# EAGLE library part -EEPROM (library tango)
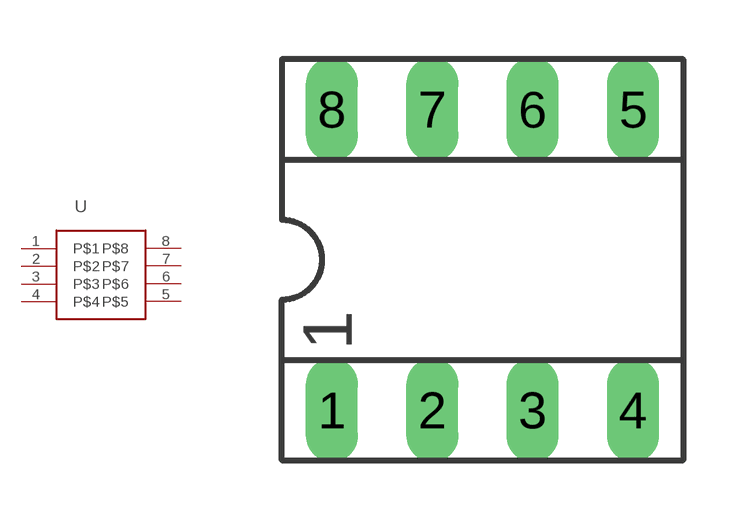
[diagram p12: symbol with the pads of SOCKED-08; footprint SOCKED-08]

Designator prefix -

## -EEPROM  [SOCKED-08]
1  P$1
2  P$2
3  P$3
4  P$4
5  P$5
6  P$6
7  P$7
8  P$8

## Footprint SOCKED-08 (pad centres in mm)
Dual In Line Socket
drill 0.813 long: 1 -3.81,-3.81; 2 -1.27,-3.81; 3 1.27,-3.81; 4 3.81,-3.81; 5 3.81,3.81; 6 1.27,3.81; 7 -1.27,3.81; 8 -3.81,3.81